# Altium footprint library Connectors.PcbLib: 21 footprints (part 1 of 2)
Each footprint in its own frame and in the unit in brackets; x right, y up, seen from the top. Pads: shape width x height; smd on the part's side, far side on the other; paste and mask are expansions set on the pad; w line width, h text height; cw(c..) or ccw(c..) is an arc to the next point about the centre after c.
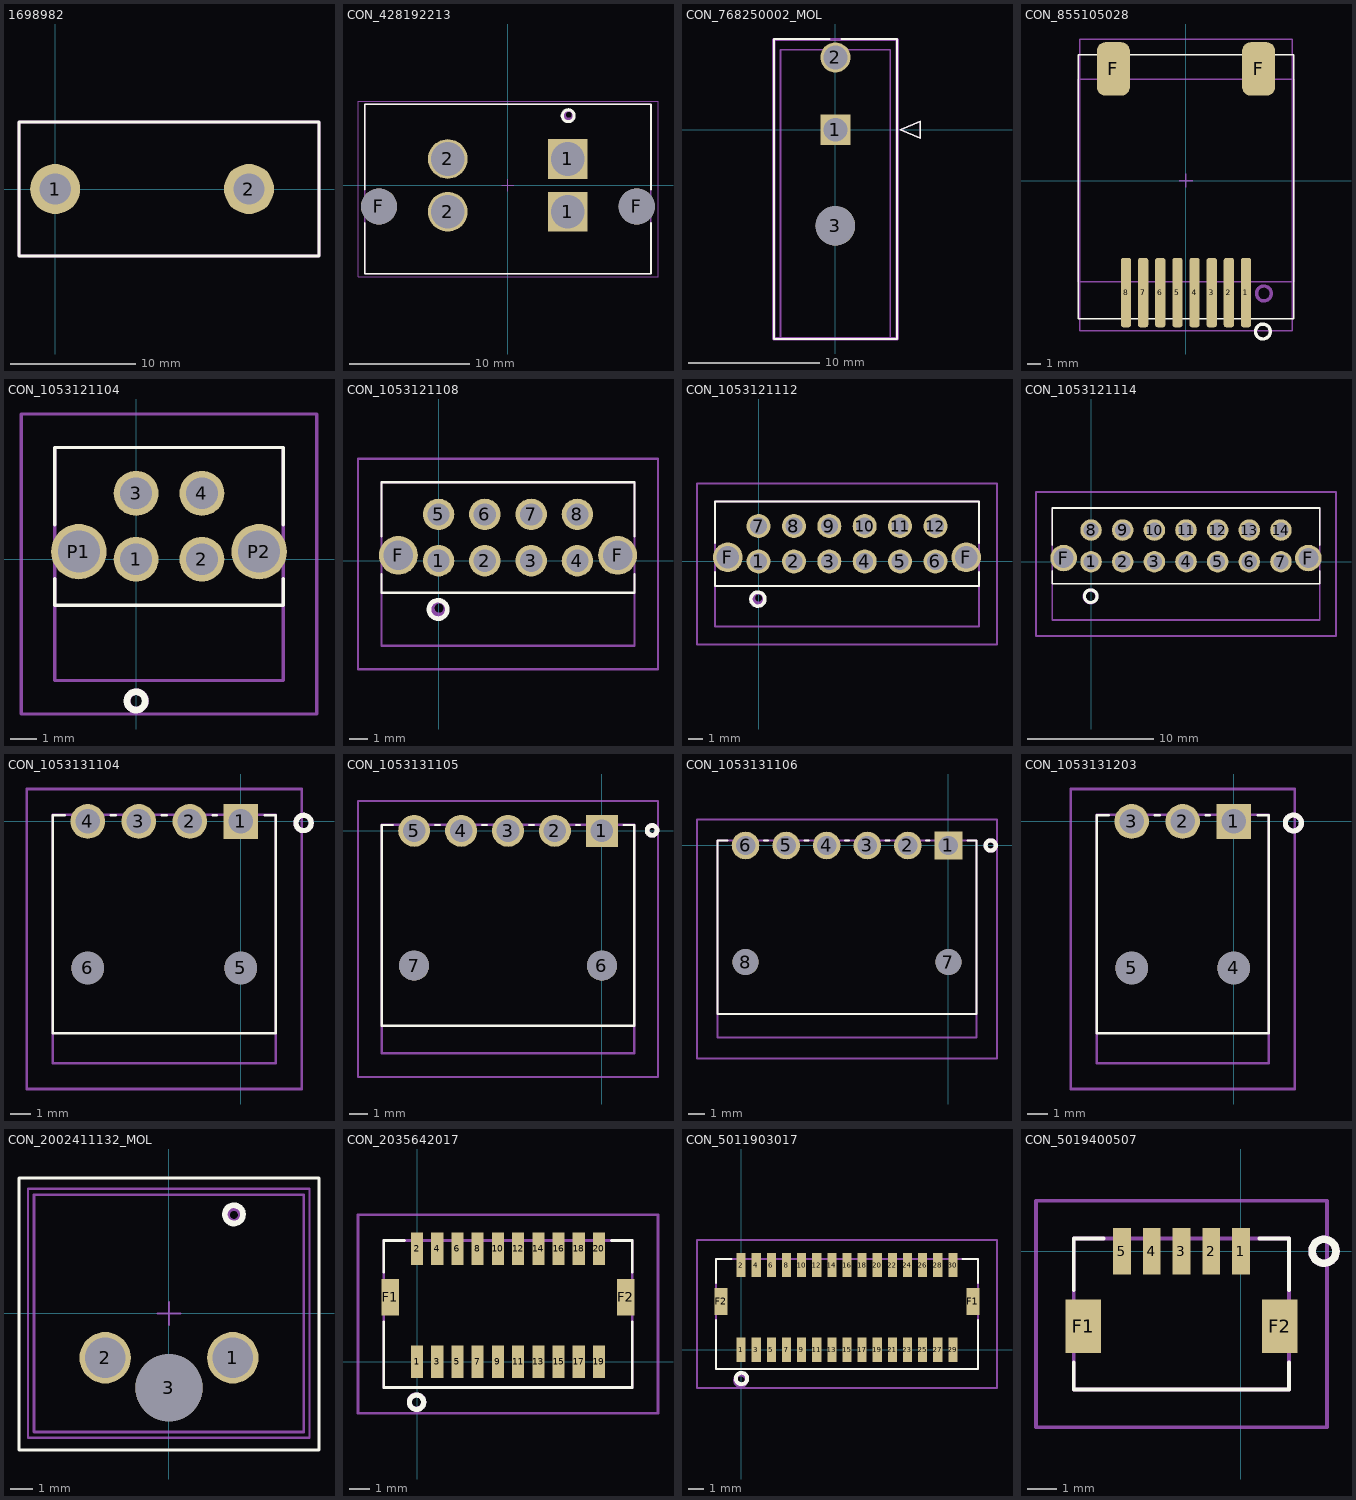
[diagram p0: the footprints below, top view; thin cyan lines are the x and y axes]

## 1698982 [mm]
pads (2):
  round 4 hole 2.5: 1(0,0) 2(15.5,0)
Top Overlay:
  lines w0.254: -2.9,-5.35 21.1,-5.35 21.1,5.35 -2.9,5.35 -2.9,-5.35
Top Courtyard:
  lines w0.254: -2.9,-5.35 21.1,-5.35 21.1,5.35 -2.9,5.35 -2.9,-5.35

## CON_428192213 [mm]
pads (6):
  rect 3.3x3.3 hole 2.8 mask+0.076: 1(5,-2.2) 1(5,2.2)
  round 3.3 hole 2.8 mask+0.076: 2(-5,-2.2) 2(-5,2.2)
  round 3 hole 3 unplated mask+0.076: F(-10.73,-1.75) F(10.73,-1.75)
Top Overlay:
  circle w0.254: c5.025,5.8 r0.496
  lines w0.152: -11.91,-3.132 -11.91,-7.35 11.91,-7.35 11.91,-3.132 ; -11.91,-0.368 -11.91,6.75 11.91,6.75 11.91,-0.368
Top Courtyard:
  lines w0.1: -0.5,0 0.5,0 ; 0,-0.5 0,0.5 ; -12.475,-7.6 12.5,-7.6 12.5,7 -12.475,7 -12.475,-7.6
Top Assembly:
  circle w0.254: c5.075,5.875 r0.372
  lines w0.127: -11.91,-7.35 -11.91,6.75 11.91,6.75 11.91,-7.35 -11.91,-7.35
3D body "428192213.stp": height 21, standoff -3.55, extent -11.9,-7.325 11.92,6.775

## CON_768250002_MOL [mm]
pads (3):
  rect 2.3x2.3 hole 1.8 mask+0.076: 1(0,0)
  round 2.3 hole 1.8 mask+0.076: 2(0,5.5)
  round 3 hole 3 unplated mask+0.076: 3(0,-7.3)
Top Overlay:
  lines w0.127: -0.448,6.9 -4.67,6.9 -4.67,-15.9 4.68,-15.9 4.68,6.9 0.448,6.9 ; 4.934,0 6.458,-0.635 6.458,0.635 4.934,0
Top Courtyard:
  lines w0.254: -4.699,-15.875 -4.699,6.858 4.699,6.858 4.699,-15.875 -4.699,-15.875
Top Assembly:
  lines w0.127: -4.18,-15.9 -4.18,6.073 4.17,6.073 4.17,-15.9 -4.18,-15.9 ; 4.934,0 6.458,-0.635 6.458,0.635 4.934,0
3D body "768250002.stp": height 14.82, standoff -3.31, extent -4.175,-15.875 4.175,6.087

## CON_855105028 [mm]
pads (10):
  rrect50% 0.76x5.15 smd: 1(4.445,-8.285) 2(3.175,-8.285) 3(1.905,-8.285) 4(0.635,-8.285) 5(-0.635,-8.285) 6(-1.905,-8.285) 7(-3.175,-8.285) 8(-4.445,-8.285)
  rrect50% 2.45x3.95 smd: F(-5.385,8.285) F(5.385,8.285)
Top Overlay:
  circle w0.254: c5.7,-11.175 r0.551
  lines w0.1: -8,-10.225 8,-10.225 8,9.325 -8,9.325 -8,-10.225
Top Courtyard:
  lines w0.1: -0.5,0 0.5,0 ; 0,-0.5 0,0.5 ; -7.875,-11.1 7.875,-11.1 7.875,10.5 -7.875,10.5 -7.875,-11.1
Top Assembly:
  circle w0.254: c5.775,-8.35 r0.551
  lines w0.1: -8,-7.5 8,-7.5 8,7.5 -8,7.5 -8,-7.5
3D body "855105028.stp": height 15.85, standoff 0, extent -7.62,-10.155 7.62,9.215

## CON_1053121104 [mm]
pads (6):
  round 1.7 hole 1.2 mask+0.076: 1(0,0) 2(2.5,0) 3(0,2.5) 4(2.5,2.5)
  round 2.1 hole 1.6 mask+0.076: P1(-2.17,0.29) P2(4.67,0.29)
Top Overlay:
  circle w0.254: c0,-5.375 r0.347
  lines w0.127: -3.08,-0.734 -3.08,-1.74 5.58,-1.74 5.58,-0.734 ; -3.08,1.314 -3.08,4.24 5.58,4.24 5.58,1.314
Top Courtyard:
  lines w0.127: -4.35,-5.87 6.85,-5.87 6.85,5.51 -4.35,5.51 -4.35,-5.87
Top Assembly:
  circle w0.254: c0.009,-5.375 r0.347
  lines w0.127: -3.08,-4.6 -3.08,4.24 5.58,4.24 5.58,-4.6 -3.08,-4.6
3D body "1053121104.stp": height 10.58, standoff -3.13, extent -3.08,-4.6 5.58,4.24

## CON_1053121108 [mm]
pads (10):
  round 1.7 hole 1.2 mask+0.076: 1(0,0) 2(2.5,0) 3(5,0) 4(7.5,0) 5(0,2.5) 6(2.5,2.5) 7(5,2.5) 8(7.5,2.5)
  round 2.1 hole 1.6 mask+0.076: F(-2.17,0.29) F(9.67,0.29)
Top Overlay:
  circle w0.254: c-0.021,-2.634 r0.496
  lines w0.127: -3.08,-0.734 -3.08,-1.74 10.58,-1.74 10.58,-0.734 ; -3.08,1.314 -3.08,4.24 10.58,4.24 10.58,1.314
Top Courtyard:
  lines w0.127: -4.35,-5.87 -4.35,5.51 11.85,5.51 11.85,-5.87 -4.35,-5.87
Top Assembly:
  circle w0.254: c0.029,-2.559 r0.372
  lines w0.127: -3.08,-4.6 10.58,-4.6 10.58,4.24 -3.08,4.24 -3.08,-4.6
3D body "1053121108.stp": height 10.68, standoff -3.03, extent -3.08,-4.59 10.58,4.25

## CON_1053121112 [mm]
pads (14):
  round 1.7 hole 1.2 mask+0.076: 1(0,0) 2(2.5,0) 3(5,0) 4(7.5,0) 5(10,0) 6(12.5,0) 7(0,2.5) 8(2.5,2.5) 9(5,2.5) 10(7.5,2.5) 11(10,2.5) 12(12.5,2.5)
  round 2.1 hole 1.6 mask+0.076: F(-2.17,0.29) F(14.67,0.29)
Top Overlay:
  circle w0.254: c-0.046,-2.659 r0.496
  lines w0.127: -3.08,-0.734 -3.08,-1.74 15.58,-1.74 15.58,-0.734 ; -3.08,1.314 -3.08,4.24 15.58,4.24 15.58,1.314
Top Courtyard:
  lines w0.127: -4.35,-5.87 16.85,-5.87 16.85,5.51 -4.35,5.51 -4.35,-5.87
Top Assembly:
  circle w0.254: c0.004,-2.584 r0.372
  lines w0.127: -3.08,-4.6 -3.08,4.24 15.58,4.24 15.58,-4.6 -3.08,-4.6
3D body "1053121112.stp": height 10.68, standoff -3.03, extent -3.1,-4.6 15.56,4.24

## CON_1053121114 [mm]
pads (16):
  round 1.7 hole 1.2 mask+0.076: 1(0,0) 2(2.5,0) 3(5,0) 4(7.5,0) 5(10,0) 6(12.5,0) 7(15,0) 8(0,2.5) 9(2.5,2.5) 10(5,2.5) 11(7.5,2.5) 12(10,2.5) 13(12.5,2.5) 14(15,2.5)
  round 2.1 hole 1.6 mask+0.076: F(-2.17,0.29) F(17.17,0.29)
Top Overlay:
  circle w0.254: c-0.025,-2.725 r0.5
  lines w0.127: -3.08,-0.734 -3.08,-1.74 18.08,-1.74 18.08,-0.734 ; -3.08,1.314 -3.08,4.24 18.08,4.24 18.08,1.314
Top Courtyard:
  lines w0.127: -4.35,-5.87 -4.35,5.51 19.35,5.51 19.35,-5.87 -4.35,-5.87
Top Assembly:
  circle w0.254: c-0.05,-2.75 r0.5
  lines w0.127: -3.08,-4.6 18.08,-4.6 18.08,4.24 -3.08,4.24 -3.08,-4.6
3D body "1053121114.stp": height 10.68, standoff -3.03, extent -3.08,-4.6 18.08,4.24

## CON_1053131104 [mm]
pads (6):
  rect 1.7x1.7 hole 1.2 mask+0.076: 1(0,0)
  round 1.7 hole 1.2 mask+0.076: 2(-2.5,0) 3(-5,0) 4(-7.5,0)
  round 1.6 hole 1.6 unplated mask+0.076: 5(0,-7.18) 6(-7.5,-7.18)
Top Overlay:
  circle w0.254: c3.075,-0.075 r0.376
  lines w0.127: -8.628,0.31 -9.22,0.31 -9.22,-10.38 1.72,-10.38 1.72,0.31 1.17,0.31 ; -6.372,0.31 -6.128,0.31 ; -3.872,0.31 -3.628,0.31 ; -1.372,0.31 -1.17,0.31
Top Courtyard:
  lines w0.127: -10.49,-13.11 2.99,-13.11 2.99,1.59 -10.49,1.59 -10.49,-13.11
Top Assembly:
  circle w0.254: c3.075,-0.075 r0.376
  lines w0.127: -9.22,-11.84 -9.22,0.32 1.72,0.32 1.72,-11.84 -9.22,-11.84
3D body "1053131104.stp": height 6.7, standoff -3.14, extent -9.22,-11.84 1.72,0.318

## CON_1053131105 [mm]
pads (7):
  rect 1.7x1.7 hole 1.2 mask+0.076: 1(0,0)
  round 1.7 hole 1.2 mask+0.076: 2(-2.5,0) 3(-5,0) 4(-7.5,0) 5(-10,0)
  round 1.6 hole 1.6 unplated mask+0.076: 6(0,-7.18) 7(-10,-7.18)
Top Overlay:
  circle w0.254: c2.675,0.025 r0.261
  lines w0.127: -11.128,0.31 -11.72,0.31 -11.72,-10.38 1.72,-10.38 1.72,0.31 1.17,0.31 ; -8.872,0.31 -8.628,0.31 ; -6.372,0.31 -6.128,0.31 ; -3.872,0.31 -3.628,0.31 ; -1.372,0.31 -1.17,0.31
Top Courtyard:
  lines w0.127: -12.99,-13.11 -12.99,1.59 2.99,1.59 2.99,-13.11 -12.99,-13.11
Top Assembly:
  circle w0.254: c2.675,0.025 r0.261
  lines w0.127: -11.72,-11.84 1.72,-11.84 1.72,0.32 -11.72,0.32 -11.72,-11.84
3D body "1053131105.stp": height 6.7, standoff -3.14, extent -11.72,-11.84 1.72,0.318

## CON_1053131106 [mm]
pads (8):
  rect 1.7x1.7 hole 1.2 mask+0.076: 1(0,0)
  round 1.7 hole 1.2 mask+0.076: 2(-2.5,0) 3(-5,0) 4(-7.5,0) 5(-10,0) 6(-12.5,0)
  round 1.6 hole 1.6 unplated mask+0.076: 7(0,-7.18) 8(-12.5,-7.18)
Top Overlay:
  circle w0.254: c2.6,0 r0.316
  lines w0.127: -13.628,0.31 -14.22,0.31 -14.22,-10.38 1.72,-10.38 1.72,0.31 1.17,0.31 ; -11.372,0.31 -11.128,0.31 ; -8.872,0.31 -8.628,0.31 ; -6.372,0.31 -6.128,0.31 ; -3.872,0.31 -3.628,0.31 ; -1.372,0.31 -1.17,0.31
Top Courtyard:
  lines w0.127: -15.49,-13.11 -15.49,1.59 2.99,1.59 2.99,-13.11 -15.49,-13.11
Top Assembly:
  circle w0.254: c2.6,0 r0.316
  lines w0.127: -14.22,-11.84 1.72,-11.84 1.72,0.32 -14.22,0.32 -14.22,-11.84
3D body "1053131106.stp": height 6.7, standoff -3.14, extent -14.22,-11.84 1.72,0.318

## CON_1053131203 [mm]
pads (5):
  rect 1.7x1.7 hole 1.2 mask+0.076: 1(0,0)
  round 1.7 hole 1.2 mask+0.076: 2(-2.5,0) 3(-5,0)
  round 1.6 hole 1.6 unplated mask+0.076: 4(0,-7.18) 5(-5,-7.18)
Top Overlay:
  circle w0.254: c2.925,-0.075 r0.391
  lines w0.127: -6.128,0.31 -6.72,0.31 -6.72,-10.38 1.72,-10.38 1.72,0.31 1.17,0.31 ; -3.872,0.31 -3.628,0.31 ; -1.372,0.31 -1.17,0.31
Top Courtyard:
  lines w0.127: -7.99,-13.11 2.99,-13.11 2.99,1.59 -7.99,1.59 -7.99,-13.11
Top Assembly:
  circle w0.254: c2.925,-0.075 r0.391
  lines w0.127: -6.72,-11.84 -6.72,0.32 1.72,0.32 1.72,-11.84 -6.72,-11.84
3D body "1053131203.stp": height 6.7, standoff -3.14, extent -6.72,-11.84 1.72,0.318

## CON_2002411132_MOL [mm]
pads (3):
  round 2.3 hole 1.8 mask+0.076: 1(2.85,-1.98) 2(-2.85,-1.98)
  round 3 hole 3 unplated mask+0.076: 3(0,-3.32)
Top Overlay:
  circle w0.254: c2.9,4.425 r0.407
  lines w0.127: -6.7,-6.1 -6.7,6.05 6.7,6.05 6.7,-6.1 -6.7,-6.1
Top Courtyard:
  lines w0.1: -0.5,0 0.5,0 ; 0,-0.5 0,0.5 ; -6.3,-5.555 6.275,-5.555 6.275,5.57 -6.3,5.57 -6.3,-5.555
Top Assembly:
  circle w0.254: c2.9,4.4 r0.305
  lines w0.127: -6.03,-5.3 6.02,-5.3 6.02,5.3 -6.03,5.3 -6.03,-5.3
3D body "2002411132.stp": height 17.7, standoff -3.03, extent -6.025,-5.305 6.025,5.295

## CON_2035642017 [mm]
pads (22):
  rect 0.6x1.6 smd paste+0 mask+0.076: 1(0,0) 2(0,5.6) 3(1,0) 4(1,5.6) 5(2,0) 6(2,5.6) 7(3,0) 8(3,5.6) 9(4,0) 10(4,5.6) 11(5,0) 12(5,5.6) 13(6,0) 14(6,5.6) 15(7,0) 16(7,5.6) 17(8,0) 18(8,5.6) 19(9,0) 20(9,5.6)
  rect 0.85x1.8 smd paste+0 mask+0.076: F1(-1.325,3.2) F2(10.325,3.2)
Top Overlay:
  circle w0.254: c-0.025,-2 r0.355
  lines w0.127: -1.65,1.98 -1.65,-1.27 10.65,-1.27 10.65,1.98 ; -1.65,4.42 -1.65,6 -0.62,6 ; 9.62,6 10.65,6 10.65,4.42
Top Courtyard:
  lines w0.127: -2.92,-2.54 -2.92,7.27 11.92,7.27 11.92,-2.54 -2.92,-2.54
Top Assembly:
  circle w0.254: c-0.024,-1.991 r0.355
  lines w0.127: -1.65,-1.27 10.65,-1.27 10.65,6 -1.65,6 -1.65,-1.27
3D body "5011902027.stp": height 5.41, standoff 0, extent -1.65,-1.27 10.65,6

## CON_5011903017 [mm]
pads (32):
  rect 0.6x1.6 smd paste+0 mask+0.076: 1(0,0) 2(0,5.6) 3(1,0) 4(1,5.6) 5(2,0) 6(2,5.6) 7(3,0) 8(3,5.6) 9(4,0) 10(4,5.6) 11(5,0) 12(5,5.6) 13(6,0) 14(6,5.6) 15(7,0) 16(7,5.6) 17(8,0) 18(8,5.6) 19(9,0) 20(9,5.6) 21(10,0) 22(10,5.6) 23(11,0) 24(11,5.6) 25(12,0) 26(12,5.6) 27(13,0) 28(13,5.6) 29(14,0) 30(14,5.6)
  rect 0.85x1.8 smd paste+0 mask+0.076: F1(15.325,3.2) F2(-1.325,3.2)
Top Overlay:
  circle w0.254: c0.025,-1.9 r0.378
  lines w0.127: -1.65,1.98 -1.65,-1.27 15.65,-1.27 15.65,1.98 ; -1.65,4.42 -1.65,6 -0.62,6 ; 14.62,6 15.65,6 15.65,4.42
Top Courtyard:
  lines w0.127: -2.92,-2.54 -2.92,7.27 16.92,7.27 16.92,-2.54 -2.92,-2.54
Top Assembly:
  circle w0.254: c-0.025,-2.015 r0.378
  lines w0.127: -1.65,-1.27 15.65,-1.27 15.65,6 -1.65,6 -1.65,-1.27
3D body "5011903017.stp": height 5.57, standoff 0, extent -1.65,-1.27 15.65,6

## CON_5019400507 [mm]
pads (7):
  rect 0.6x1.55 smd paste+0 mask+0.076: 1(0,0) 2(-1,0) 3(-2,0) 4(-3,0) 5(-4,0)
  rect 1.2x1.8 smd paste+0 mask+0.076: F1(-5.3,-2.525) F2(1.3,-2.525)
Top Overlay:
  circle w0.254: c2.794,0 r0.402
  lines w0.127: -5.62,-3.745 -5.62,-4.645 1.62,-4.645 1.62,-3.745 ; -5.62,-1.305 -5.62,0.425 -4.62,0.425 ; 0.62,0.425 1.62,0.425 1.62,-1.305
Top Courtyard:
  lines w0.127: -6.89,-5.915 2.89,-5.915 2.89,1.695 -6.89,1.695 -6.89,-5.915
Top Assembly:
  circle w0.254: c2.794,0 r0.402
  lines w0.127: -5.62,-4.645 -5.62,0.425 1.62,0.425 1.62,-4.645 -5.62,-4.645
3D body "5019400507.stp": height 5.45, standoff -0.05, extent -5.62,-4.625 1.62,0.425